# Altium integrated library Molex Docking Station.IntLib: 2 symbols
Pins are listed as number, name and electrical type; pins without a type are passive.

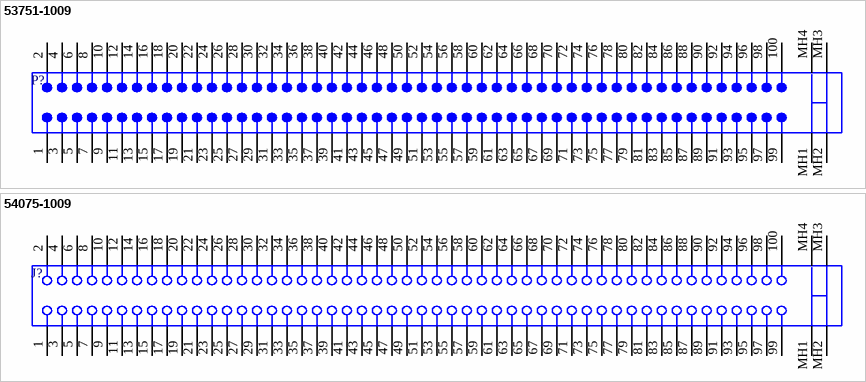
[diagram p0: symbols 53751-1009 to 54075-1009]

## 53751-1009
designator P?
Board-to-Board, Docking Station, 0.80mm (.031") Pitch, Shielded Plug, Vertical, Ultra Low Profile, SMT; MatingHeight: 8.5mm; Voltage: 100V; Current: 0.5A; ContactResistance: 40mOhm (Maximum); PCB_Layout: Complies with Manufacturer's Recommendation.; ComponentAvailability: Pending Obsolescence; Published: 17-Dec-2003; DatasheetDocument: Feb-2002; PackageDocument: Jun-2001; PackageReference: 53751; Publisher: Altium Limited; ComponentLink1Description: Manufacturer Link; ComponentLink1URL: http://www.molex.com/; ComponentLink2Description: Datasheet; ComponentLink2URL: http://www.molex.com/catalog/pdf/mx53751.pdf
footprint 53751 (Connector; Docking Station, Plug; 100 Position; Vertical)
signal-integrity model Docking Station
pins: 1, 2, 3, 4, 5, 6, 7, 8, 9, 10, 11, 12, 13, 14, 15, 16, 17, 18, 19, 20, 21, 22, 23, 24, 25, 26, 27, 28, 29, 30, 31, 32, 33, 34, 35, 36, 37, 38, 39, 40, 41, 42, 43, 44, 45, 46, 47, 48, 49, 50, 51, 52, 53, 54, 55, 56, 57, 58, 59, 60, 61, 62, 63, 64, 65, 66, 67, 68, 69, 70, 71, 72, 73, 74, 75, 76, 77, 78, 79, 80, 81, 82, 83, 84, 85, 86, 87, 88, 89, 90, 91, 92, 93, 94, 95, 96, 97, 98, 99, 100, MH1, MH2, MH3, MH4
1 alternate drawing of the same symbol

## 54075-1009
designator J?
Board-to-Board, Docking Station, 0.80mm (.031") Pitch, Shielded Receptacle, Vertical, Ultra Low Profile, SMT; MatingHeight: 8.5mm; Voltage: 100V; Current: 0.5A; ContactResistance: 40mOhm (Maximum); PCB_Layout: Complies with Manufacturer's Recommendation.; ComponentAvailability: Pending Obsolescence; Published: 17-Dec-2003; DatasheetDocument: Feb-2002; PackageDocument: Jun-2001; PackageReference: 54075; Publisher: Altium Limited; ComponentLink1Description: Manufacturer Link; ComponentLink1URL: http://www.molex.com/; ComponentLink2Description: Datasheet; ComponentLink2URL: http://www.molex.com/catalog/pdf/mx54075.pdf
footprint 54075 (Connector; Docking Station, Receptacle; 100 Position; Vertical)
signal-integrity model Docking Station
pins: 1, 2, 3, 4, 5, 6, 7, 8, 9, 10, 11, 12, 13, 14, 15, 16, 17, 18, 19, 20, 21, 22, 23, 24, 25, 26, 27, 28, 29, 30, 31, 32, 33, 34, 35, 36, 37, 38, 39, 40, 41, 42, 43, 44, 45, 46, 47, 48, 49, 50, 51, 52, 53, 54, 55, 56, 57, 58, 59, 60, 61, 62, 63, 64, 65, 66, 67, 68, 69, 70, 71, 72, 73, 74, 75, 76, 77, 78, 79, 80, 81, 82, 83, 84, 85, 86, 87, 88, 89, 90, 91, 92, 93, 94, 95, 96, 97, 98, 99, 100, MH1, MH2, MH3, MH4
1 alternate drawing of the same symbol